# Altium footprint library 171814-0004.PcbLib: 1 footprints
Each footprint in its own frame and in the unit in brackets; x right, y up, seen from the top. Pads: shape width x height; smd on the part's side, far side on the other; paste and mask are expansions set on the pad; w line width, h text height; cw(c..) or ccw(c..) is an arc to the next point about the centre after c.
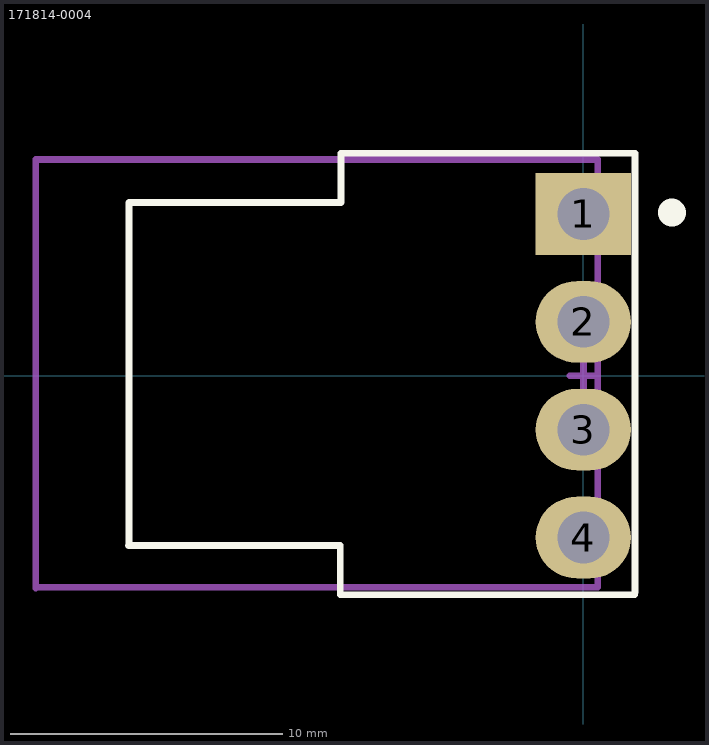
[diagram p0: the footprint, top view; thin cyan lines are the x and y axes]

## 171814-0004 [mm]
pads (4):
  rect 3.5x3 hole 1.9: 1(0,5.94)
  oval 3.5x3 hole 1.9: 2(0,1.98) 3(0,-1.98) 4(0,-5.94)
Top Overlay:
  circle w1: c3.25,5.99 r0.01
  lines w0.25: -16.7,-6.235 -8.925,-6.235 -8.925,-8.035 1.875,-8.035 ; -16.675,-6.21 -16.675,6.365 -8.9,6.365 -8.9,8.165 1.9,8.165 1.9,-7.96
Mechanical 13:
  lines w0.25: -20.1,-7.785 -20.1,7.94 0.525,7.94 0.525,-7.76 -20.075,-7.76
Mechanical 15:
  lines w0.25: -0.5,0 0,0 ; 0,-0.5 0,0 ; 0,0.5 0,0 ; 0.5,0 0,0
3D body "171814-0004.stp": height 9.57, standoff -2.98, extent -20.049,-7.759 0.55,7.939